# EAGLE library part KSZ8995MA (library Micrel_By_element14_Batch_1)
5 Port 10/100 Switch with PHY
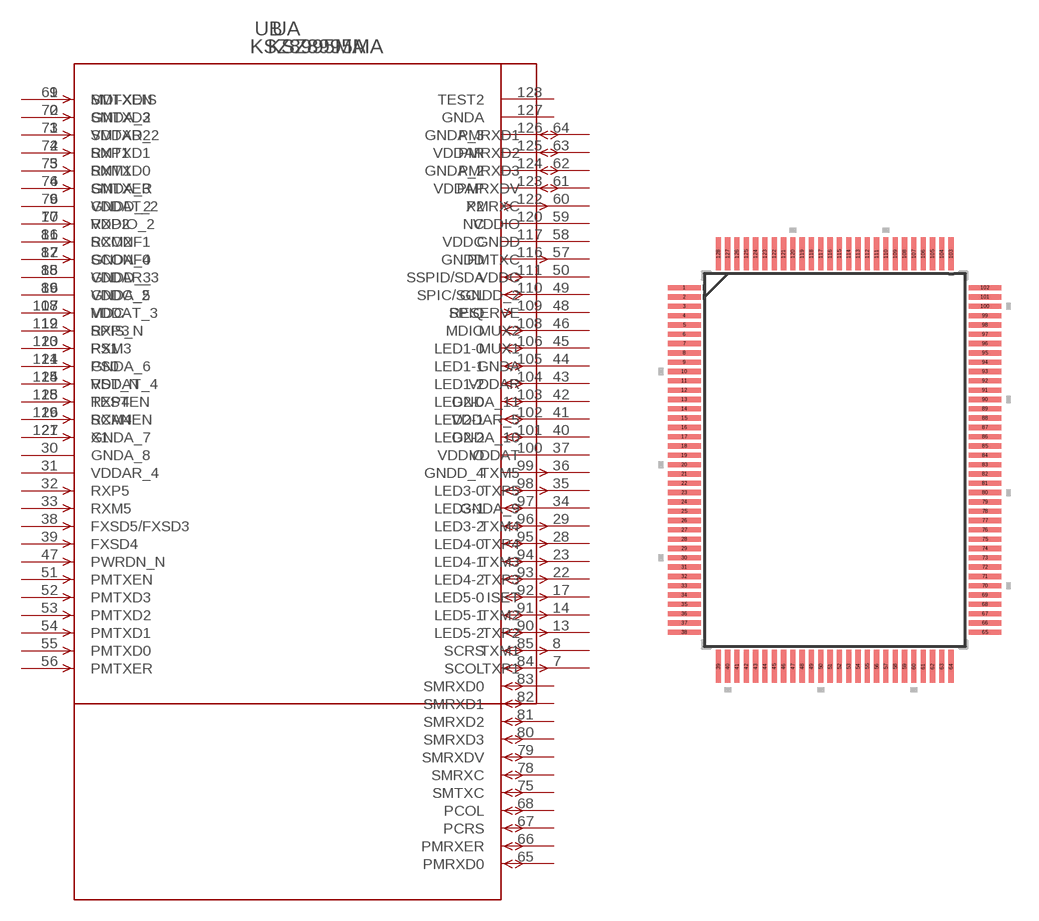
[diagram p16: symbol with the pads of PQFP-128_MQL; footprint PQFP-128_MQL]

Designator prefix U; gates A=KSZ8995MA_A B=KSZ8995MA_B

## KSZ8995MA  [PQFP-128_MQL]
1  A:MDI-XDIS  in
2  A:GNDA_2  pwr
3  A:VDDAR_2  pwr
4  A:RXP1  in
5  A:RXM1  in
6  A:GNDA_3  pwr
7  A:TXP1  out
8  A:TXM1  out
9  A:VDDAT_2  pwr
10  A:RXP2  in
11  A:RXM2  in
12  A:GNDA_4  pwr
13  A:TXP2  out
14  A:TXM2  out
15  A:VDDAR_3  pwr
16  A:GNDA_5  pwr
17  A:ISET  out
18  A:VDDAT_3  pwr
19  A:RXP3  in
20  A:RXM3  in
21  A:GNDA_6  pwr
22  A:TXP3  out
23  A:TXM3  out
24  A:VDDAT_4  pwr
25  A:RXP4  in
26  A:RXM4  in
27  A:GNDA_7  pwr
28  A:TXP4  out
29  A:TXM4  out
30  A:GNDA_8  pwr
31  A:VDDAR_4  pwr
32  A:RXP5  in
33  A:RXM5  in
34  A:GNDA_9  pwr
35  A:TXP5  out
36  A:TXM5  out
37  A:VDDAT  pwr
38  A:FXSD5/FXSD3  in
39  A:FXSD4  in
40  A:GNDA_10  pwr
41  A:VDDAR_5  pwr
42  A:GNDA_11  pwr
43  A:VDDAR  pwr
44  A:GNDA  pwr
45  A:MUX1  pas
46  A:MUX2  pas
47  A:PWRDN_N  in
48  A:RESERVE  pas
49  A:GNDD_2  pas
50  A:VDDC  pwr
51  A:PMTXEN  in
52  A:PMTXD3  in
53  A:PMTXD2  in
54  A:PMTXD1  in
55  A:PMTXD0  in
56  A:PMTXER  in
57  A:PMTXC  out
58  A:GNDD  pwr
59  A:VDDIO  pwr
60  A:PMRXC  out
61  A:PMRXDV
62  A:PMRXD3
63  A:PMRXD2
64  A:PMRXD1
65  B:PMRXD0
66  B:PMRXER
67  B:PCRS
68  B:PCOL
69  B:SMTXEN  in
70  B:SMTXD3  in
71  B:SMTXD2  in
72  B:SMTXD1  in
73  B:SMTXD0  in
74  B:SMTXER  in
75  B:SMTXC
76  B:GNDD_2  pwr
77  B:VDDIO_2  pwr
78  B:SMRXC
79  B:SMRXDV
80  B:SMRXD3
81  B:SMRXD2
82  B:SMRXD1
83  B:SMRXD0
84  B:SCOL
85  B:SCRS
86  B:SCONF1  in
87  B:SCONF0  in
88  B:GNDD_3  pwr
89  B:VDDC_2  pwr
90  B:LED5-2
91  B:LED5-1
92  B:LED5-0
93  B:LED4-2
94  B:LED4-1
95  B:LED4-0
96  B:LED3-2
97  B:LED3-1
98  B:LED3-0
99  B:GNDD_4  pwr
100  B:VDDIO  pwr
101  B:LED2-2
102  B:LED2-1
103  B:LED2-0
104  B:LED1-2
105  B:LED1-1
106  B:LED1-0
107  B:MDC  in
108  B:MDIO
109  B:SPIQ  out
110  B:SPIC/SCL
111  B:SSPID/SDA
112  B:SPIS_N  in
113  B:PS1  in
114  B:PS0  in
115  B:RST_N  in
116  B:GNDD  pwr
117  B:VDDC  pwr
118  B:TESTEN  in
119  B:SCANEN  in
120  B:NC  nc
121  B:X1  in
122  B:X2  out
123  B:VDDAP  pwr
124  B:GNDA_2  pwr
125  B:VDDAR  pwr
126  B:GNDA_3  pwr
127  B:GNDA  pwr
128  B:TEST2  pas

## Footprint PQFP-128_MQL (pad centres in mm)
smd 1.753 x 0.279: 1 -8.077,9.25; 2 -8.077,8.75; 3 -8.077,8.25; 4 -8.077,7.75; 5 -8.077,7.25; 6 -8.077,6.75; 7 -8.077,6.25; 8 -8.077,5.75; 9 -8.077,5.25; 10 -8.077,4.75; 11 -8.077,4.25; 12 -8.077,3.75; 13 -8.077,3.25; 14 -8.077,2.75; 15 -8.077,2.25; 16 -8.077,1.75; 17 -8.077,1.25; 18 -8.077,0.75; 19 -8.077,0.25; 20 -8.077,-0.25; 21 -8.077,-0.75; 22 -8.077,-1.25; 23 -8.077,-1.75; 24 -8.077,-2.25; 25 -8.077,-2.75; 26 -8.077,-3.25; 27 -8.077,-3.75; 28 -8.077,-4.25; 29 -8.077,-4.75; 30 -8.077,-5.25; 31 -8.077,-5.75; 32 -8.077,-6.25; 33 -8.077,-6.75; 34 -8.077,-7.25; 35 -8.077,-7.75; 36 -8.077,-8.25; 37 -8.077,-8.75; 38 -8.077,-9.25; 65 8.077,-9.25; 66 8.077,-8.75; 67 8.077,-8.25; 68 8.077,-7.75; 69 8.077,-7.25; 70 8.077,-6.75; 71 8.077,-6.25; 72 8.077,-5.75; 73 8.077,-5.25; 74 8.077,-4.75; 75 8.077,-4.25; 76 8.077,-3.75; 77 8.077,-3.25; 78 8.077,-2.75; 79 8.077,-2.25; 80 8.077,-1.75; 81 8.077,-1.25; 82 8.077,-0.75; 83 8.077,-0.25; 84 8.077,0.25; 85 8.077,0.75; 86 8.077,1.25; 87 8.077,1.75; 88 8.077,2.25; 89 8.077,2.75; 90 8.077,3.25; 91 8.077,3.75; 92 8.077,4.25; 93 8.077,4.75; 94 8.077,5.25; 95 8.077,5.75; 96 8.077,6.25; 97 8.077,6.75; 98 8.077,7.25; 99 8.077,7.75; 100 8.077,8.25; 101 8.077,8.75; 102 8.077,9.25
smd 0.279 x 1.753: 39 -6.25,-11.074; 40 -5.75,-11.074; 41 -5.25,-11.074; 42 -4.75,-11.074; 43 -4.25,-11.074; 44 -3.75,-11.074; 45 -3.25,-11.074; 46 -2.75,-11.074; 47 -2.25,-11.074; 48 -1.75,-11.074; 49 -1.25,-11.074; 50 -0.75,-11.074; 51 -0.25,-11.074; 52 0.25,-11.074; 53 0.75,-11.074; 54 1.25,-11.074; 55 1.75,-11.074; 56 2.25,-11.074; 57 2.75,-11.074; 58 3.25,-11.074; 59 3.75,-11.074; 60 4.25,-11.074; 61 4.75,-11.074; 62 5.25,-11.074; 63 5.75,-11.074; 64 6.25,-11.074; 103 6.25,11.074; 104 5.75,11.074; 105 5.25,11.074; 106 4.75,11.074; 107 4.25,11.074; 108 3.75,11.074; 109 3.25,11.074; 110 2.75,11.074; 111 2.25,11.074; 112 1.75,11.074; 113 1.25,11.074; 114 0.75,11.074; 115 0.25,11.074; 116 -0.25,11.074; 117 -0.75,11.074; 118 -1.25,11.074; 119 -1.75,11.074; 120 -2.25,11.074; 121 -2.75,11.074; 122 -3.25,11.074; 123 -3.75,11.074; 124 -4.25,11.074; 125 -4.75,11.074; 126 -5.25,11.074; 127 -5.75,11.074; 128 -6.25,11.074